# Altium footprint library MQ-9.PcbLib: 1 footprints
Each footprint in its own frame and in the unit in brackets; x right, y up, seen from the top. Pads: shape width x height; smd on the part's side, far side on the other; paste and mask are expansions set on the pad; w line width, h text height; cw(c..) or ccw(c..) is an arc to the next point about the centre after c.
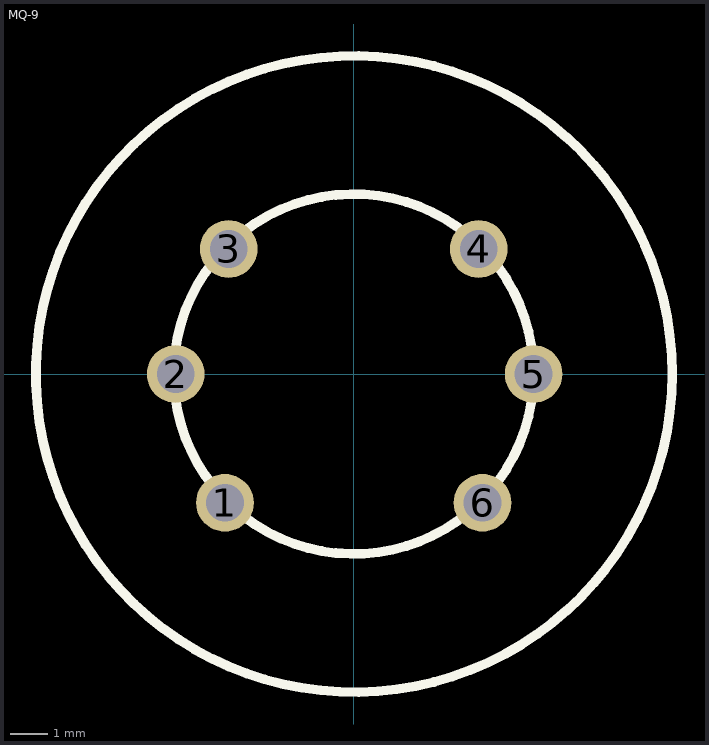
[diagram p0: the footprint, top view; thin cyan lines are the x and y axes]

## MQ-9 [mm]
pads (6):
  round 1.524 hole 1: 1(-3.4,-3.4) 2(-4.7,0) 3(-3.3,3.3) 4(3.3,3.3) 5(4.749,0) 6(3.4,-3.4)
Top Overlay:
  circle w0.254: c-0.001,0 r4.75
  circle w0.254: c0.007,0 r8.4